# EAGLE library part MAX1490* (library max1480-90)
MAX1490 Complete, Isolated RS485/RS-422 Data Interface
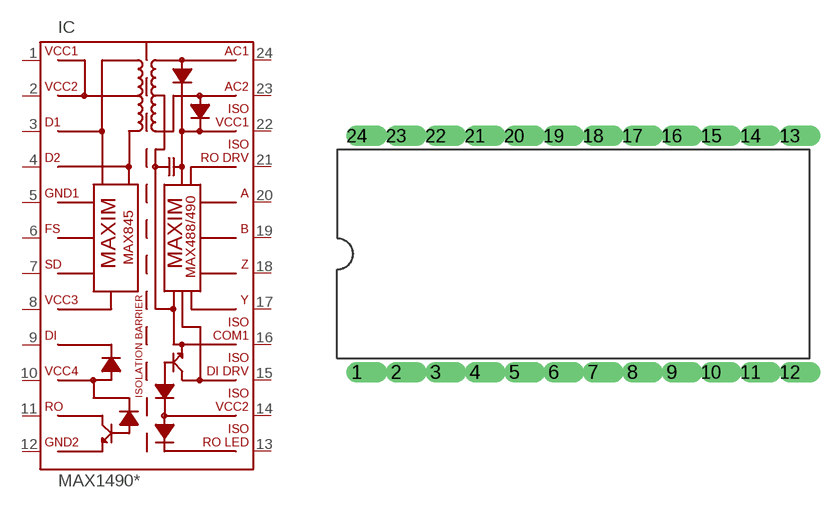
[diagram p1: symbol with the pads of DIP24W; footprint DIP24W]

Designator prefix IC

## MAX1490ACPG, MAX1490AEPG, MAX1490BCPG, MAX1490BEPG  [DIP24W]
1  VCC  pwr
2  VCC  pwr
3  D1
4  D2
5  GND  pwr
6  FS  in
7  SD  in
8  VCC  pwr
9  DI  in
10  VCC  pwr
11  RO  out
12  GND  pwr
13  ISOROLED  out
14  ISOVCC  pwr
15  ISODIDRV
16  ISOCOM1  pwr
17  Y  out
18  Z  out
19  B  in
20  A  in
21  ISORODRV  out
22  ISOVCC  pwr
23  AC2  nc
24  AC1  nc

## Footprint DIP24W (pad centres in mm)
DIP24W
drill 0.813 offset: 1 -13.97,-7.62; 2 -11.43,-7.62; 3 -8.89,-7.62; 4 -6.35,-7.62; 5 -3.81,-7.62; 6 -1.27,-7.62; 7 1.27,-7.62; 8 3.81,-7.62; 9 6.35,-7.62; 10 8.89,-7.62; 11 11.43,-7.62; 12 13.97,-7.62; 13 13.97,7.62; 14 11.43,7.62; 15 8.89,7.62; 16 6.35,7.62; 17 3.81,7.62; 18 1.27,7.62; 19 -1.27,7.62; 20 -3.81,7.62; 21 -6.35,7.62; 22 -8.89,7.62; 23 -11.43,7.62; 24 -13.97,7.62